# Altium footprint library Connectors_PCB.PcbLib: 1 footprints
Each footprint in its own frame and in the unit in brackets; x right, y up, seen from the top. Pads: shape width x height; smd on the part's side, far side on the other; paste and mask are expansions set on the pad; w line width, h text height; cw(c..) or ccw(c..) is an arc to the next point about the centre after c.
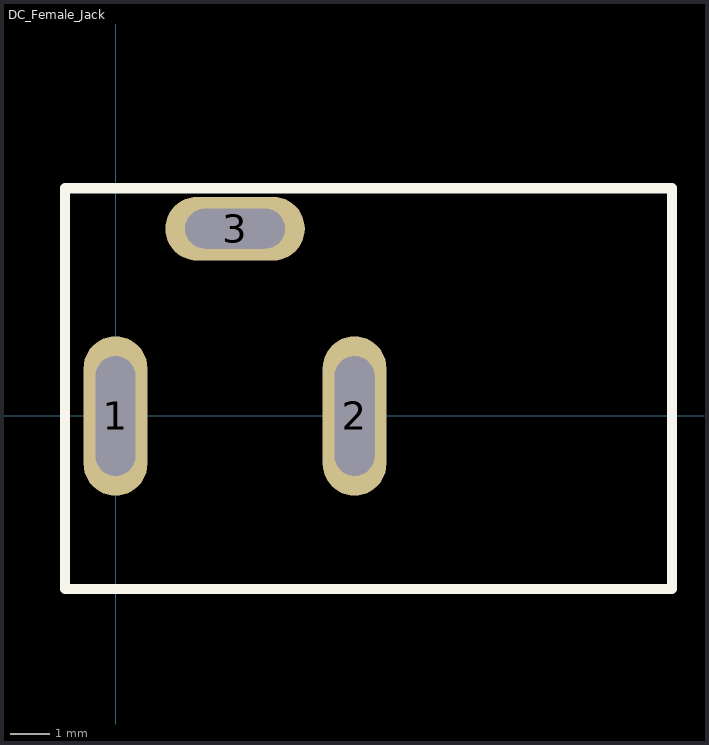
[diagram p0: the footprint, top view; thin cyan lines are the x and y axes]

## DC_Female_Jack [mm]
pads (3):
  oval 1.6x4 hole 3 slot 1 at 0 deg: 1(0,0) 2(6,0)
  oval 3.5x1.6 hole 1 slot 2.5 at 0 deg: 3(3,4.7)
Top Overlay:
  lines w0.254: -1.27,-4.342 13.97,-4.342 13.97,5.715 -1.27,5.715 -1.27,-4.342
3D body "DC_Barrel_Assy.stp": height 11.1, standoff -4.4, extent -0.693,-4.342 13.97,5.358
3D body: height 1.27, standoff 0, extent -2.54,7.62 -2.54,7.62